# Altium integrated library davicom.IntLib: 1 symbol
Pins are listed as number, name and electrical type; pins without a type are passive.

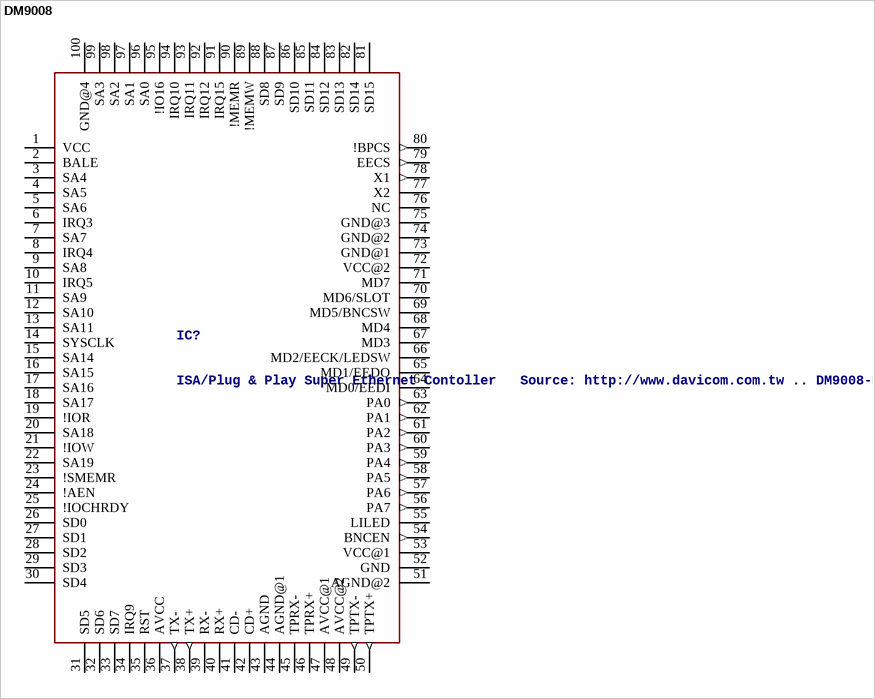
[diagram p0: symbol DM9008]

## DM9008
designator IC?, comment ISA/Plug & Play Super Ethernet Contoller   Source: http://www.davicom.com.tw .. DM9008-DS-F02-930914.pdf   ATTENTION: PAD 5 double definition in data sheet!  SA6 &  LILED  LILED = pad 55
OC_FARNELL: unknown; OC_NEWARK: unknown
footprint QF100L-20X14
pins: 1 VCC (power), 2 BALE, 3 SA4, 4 SA5, 5 SA6, 6 IRQ3 (hiz), 7 SA7, 8 IRQ4 (hiz), 9 SA8, 10 IRQ5 (hiz), 11 SA9, 12 SA10, 13 SA11, 14 SYSCLK, 15 SA14, 16 SA15, 17 SA16, 18 SA17, 19 !IOR, 20 SA18, 21 !IOW, 22 SA19, 23 !SMEMR, 24 !AEN, 25 !IOCHRDY (hiz), 26 SD0 (hiz), 27 SD1 (hiz), 28 SD2 (hiz), 29 SD3 (hiz), 30 SD4 (hiz), 31 SD5 (hiz), 32 SD6 (hiz), 33 SD7 (hiz), 34 IRQ9 (hiz), 35 RST, 36 AVCC (power), 37 TX- (out), 38 TX+ (out), 39 RX-, 40 RX+, 41 CD-, 42 CD+, 43 AGND (power), 44 AGND@1 (power), 45 TPRX-, 46 TPRX+, 47 AVCC@1 (power), 48 AVCC@2 (power), 49 TPTX- (out), 50 TPTX+ (out), 51 AGND@2 (power), 52 GND (power), 53 VCC@1 (power), 54 BNCEN (out), 55 LILED (oc), 56 PA7 (out), 57 PA6 (out), 58 PA5 (out), 59 PA4 (out), 60 PA3 (out), 61 PA2 (out), 62 PA1 (out), 63 PA0 (out), 64 MD0/EEDI (hiz), 65 MD1/EEDO (hiz), 66 MD2/EECK/LEDSW (hiz), 67 MD3 (hiz), 68 MD4 (hiz), 69 MD5/BNCSW (hiz), 70 MD6/SLOT (hiz), 71 MD7 (hiz), 72 VCC@2 (power), 73 GND@1 (power), 74 GND@2 (power), 75 GND@3 (power), 76 NC, 77 X2, 78 X1 (out), 79 EECS (out), 80 !BPCS (out), 81 SD15 (hiz), 82 SD14 (hiz), 83 SD13 (hiz), 84 SD12 (hiz), 85 SD11 (hiz), 86 SD10 (hiz), 87 SD9 (hiz), 88 SD8 (hiz), 89 !MEMW, 90 !MEMR, 91 IRQ15 (hiz), 92 IRQ12 (hiz), 93 IRQ11 (hiz), 94 IRQ10 (hiz), 95 !IO16 (hiz), 96 SA0, 97 SA1, 98 SA2, 99 SA3, 100 GND@4 (power)